# EAGLE library part 22-?-06 (library con-molex)
CONNECTOR wire to board 2.54 mm (.1 inch) pitch header
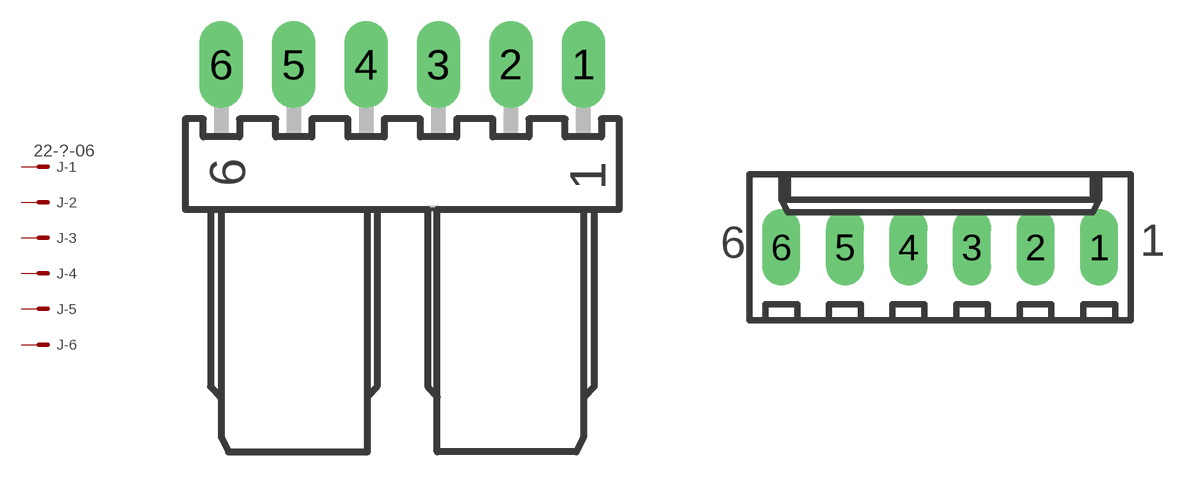
[diagram p32: symbol with the pads of 7395-06; footprints 7395-06, 6410-06]

Designator prefix J; gates -1=MV -2=M -3=M -4=M -5=M -6=M

## 22-05-7068-06 (MF: MOLEX; OC_FARNELL: unknown; OC_NEWARK: unknown)  [7395-06]
1  -1:S  pas
2  -2:S  pas
3  -3:S  pas
4  -4:S  pas
5  -5:S  pas
6  -6:S  pas

## 22-27-2061-06 (MF: MOLEX; OC_FARNELL: unknown; OC_NEWARK: unknown)  [6410-06]
Pads as for 7395-06

## Footprint 7395-06 (pad centres in mm)
KK® 254 Wire-to-Board Header, Right Angle, with Friction Lock, 6 Circuits Datasheet <http://www.molex.com/pdm_docs/sd/022057068_sd.pdf>
drill 1.016 long: 1 6.35,0; 2 3.81,0; 3 1.27,0; 4 -1.27,0; 5 -3.81,0; 6 -6.35,0

## Footprint 6410-06 (pad centres in mm)
KK® 254 Wire-to-Board Header, Vertical, with Friction Lock, 6 Circuits, Tin (Sn) Plating Datasheet <http://www.molex.com/pdm_docs/sd/022272061_sd.pdf>
drill 1.016 long: 1 6.35,0; 2 3.81,0; 3 1.27,0; 4 -1.27,0; 5 -3.81,0; 6 -6.35,0